# Altium schematic symbol library SCH_Other.SchLib: 3 symbols
Pins are listed as number, name and electrical type; pins without a type are passive.

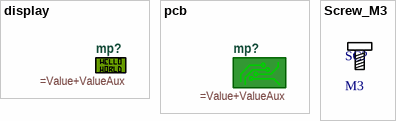
[diagram p0: symbols display to Screw_M3]

## display
designator mp?  (mechanical)
=Description

## pcb
designator mp?  (mechanical)
=Description

## Screw_M3
designator SC?, comment M3
Screw
footprint SCRREW_M3